# Altium integrated library Altium_WE-SPXO (rev19a).IntLib: 134 symbols (part 2 of 2)
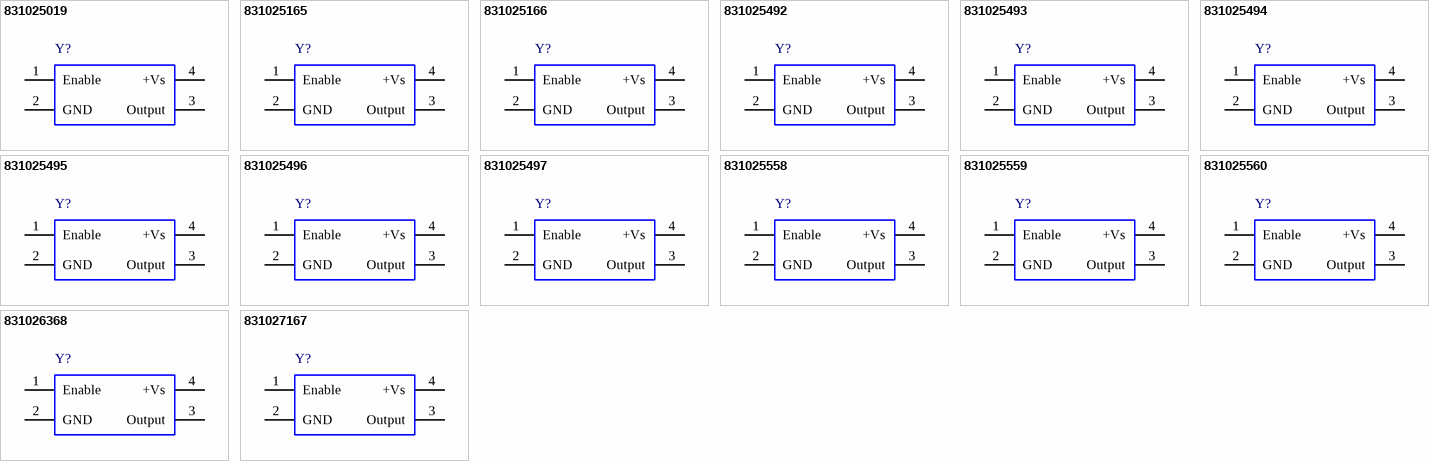
[diagram p8: symbols 831025019 to 831027167]

## 831025558
designator Y?, comment 24MHz, +/-50ppm, 3.3V  (value not drawn)
WE-SPXO Simple Packaged Quartz Oscillator, size CFPS-39, 24MHz, +/-50ppm, 3.3V; Part Number: 831025558; Frequency Stability: 50ppm; ComponentLink1Description: Manufacturer; ComponentLink1URL: http://www.we-online.de; ComponentLink2Description: Datasheet; ComponentLink2URL: https://katalog.we-online.com/pbs/datasheet/831025558.pdf; Published Date: March 2019; Publisher: Wurth Elektronik; Size: CFPS-39; Operating Temperature: -40 up to +85degC; Mounting Technology: SMT; Packaging: Tape and Reel; Supply Voltage: 3.3V; Frequency: 24MHz
footprint WE-SPXO_CFPS-39
pins: 1 Enable, 2 GND, 3 Output, 4 +Vs

## 831025559
designator Y?, comment 40MHz, +/-50ppm, 3.3V  (value not drawn)
WE-SPXO Simple Packaged Quartz Oscillator, size CFPS-39, 40MHz, +/-50ppm, 3.3V; Part Number: 831025559; Frequency Stability: 50ppm; ComponentLink1Description: Manufacturer; ComponentLink1URL: http://www.we-online.de; ComponentLink2Description: Datasheet; ComponentLink2URL: https://katalog.we-online.com/pbs/datasheet/831025559.pdf; Published Date: March 2019; Publisher: Wurth Elektronik; Size: CFPS-39; Operating Temperature: -40 up to +85degC; Mounting Technology: SMT; Packaging: Tape and Reel; Supply Voltage: 3.3V; Frequency: 40MHz
footprint WE-SPXO_CFPS-39
pins: 1 Enable, 2 GND, 3 Output, 4 +Vs

## 831025560
designator Y?, comment 50MHz, +/-50ppm, 3.3V  (value not drawn)
WE-SPXO Simple Packaged Quartz Oscillator, size CFPS-39, 50MHz, +/-50ppm, 3.3V; Part Number: 831025560; Frequency Stability: 50ppm; ComponentLink1Description: Manufacturer; ComponentLink1URL: http://www.we-online.de; ComponentLink2Description: Datasheet; ComponentLink2URL: https://katalog.we-online.com/pbs/datasheet/831025560.pdf; Published Date: March 2019; Publisher: Wurth Elektronik; Size: CFPS-39; Operating Temperature: -40 up to +85degC; Mounting Technology: SMT; Packaging: Tape and Reel; Supply Voltage: 3.3V; Frequency: 50MHz
footprint WE-SPXO_CFPS-39
pins: 1 Enable, 2 GND, 3 Output, 4 +Vs

## 831026368
designator Y?, comment 27MHz, +/-50ppm, 3.3V  (value not drawn)
WE-SPXO Simple Packaged Quartz Oscillator, size CFPS-39, 27MHz, +/-50ppm, 3.3V; Part Number: 831026368; Frequency Stability: 50ppm; ComponentLink1Description: Manufacturer; ComponentLink1URL: http://www.we-online.de; ComponentLink2Description: Datasheet; ComponentLink2URL: https://katalog.we-online.com/pbs/datasheet/831026368.pdf; Published Date: March 2019; Publisher: Wurth Elektronik; Size: CFPS-39; Operating Temperature: -40 up to +85degC; Mounting Technology: SMT; Packaging: Tape and Reel; Supply Voltage: 3.3V; Frequency: 27MHz
footprint WE-SPXO_CFPS-39
pins: 1 Enable, 2 GND, 3 Output, 4 +Vs

## 831027167
designator Y?, comment 26MHz, +/-50ppm, 3.3V  (value not drawn)
WE-SPXO Simple Packaged Quartz Oscillator, size CFPS-39, 26MHz, +/-50ppm, 3.3V; Part Number: 831027167; Frequency Stability: 50ppm; ComponentLink1Description: Manufacturer; ComponentLink1URL: http://www.we-online.de; ComponentLink2Description: Datasheet; ComponentLink2URL: https://katalog.we-online.com/pbs/datasheet/831027167.pdf; Published Date: March 2019; Publisher: Wurth Elektronik; Size: CFPS-39; Operating Temperature: -40 up to +85degC; Mounting Technology: SMT; Packaging: Tape and Reel; Supply Voltage: 3.3V; Frequency: 26MHz
footprint WE-SPXO_CFPS-39
pins: 1 Enable, 2 GND, 3 Output, 4 +Vs


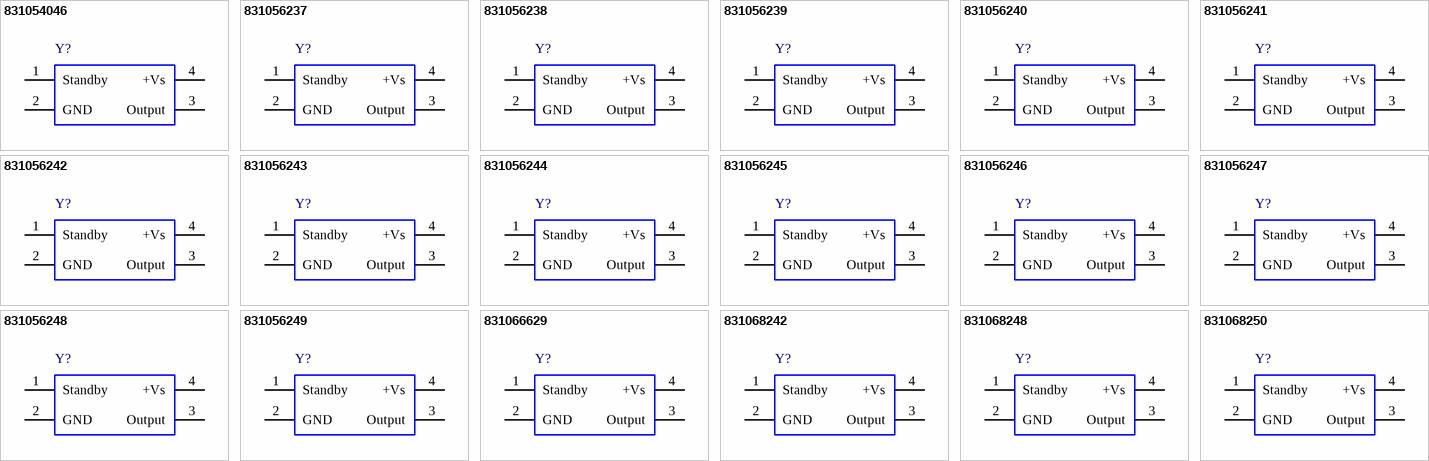
[diagram p4: symbols 831054046 to 831068250]

## 831054046
designator Y?, comment 10MHz, +/-50ppm, 3.3V  (value not drawn)
WE-SPXO Simple Packaged Quartz Oscillator, size IQXO-540, 10MHz, +/-50ppm, 3.3V; Part Number: 831054046; Frequency Stability: 50ppm; ComponentLink1Description: Manufacturer; ComponentLink1URL: http://www.we-online.de; ComponentLink2Description: Datasheet; ComponentLink2URL: https://katalog.we-online.com/pbs/datasheet/831054046.pdf; Published Date: March 2019; Publisher: Wurth Elektronik; Size: IQXO-540; Operating Temperature: -40 up to +85degC; Mounting Technology: SMT; Packaging: Tape and Reel; Supply Voltage: 3.3V; Frequency: 10MHz
footprint WE-SPXO_IQXO-540
pins: 1 Standby, 2 GND, 3 Output, 4 +Vs

## 831056237
designator Y?, comment 12MHz, +/-50ppm, 3.3V  (value not drawn)
WE-SPXO Simple Packaged Quartz Oscillator, size IQXO-540, 12MHz, +/-50ppm, 3.3V; Part Number: 831056237; Frequency Stability: 50ppm; ComponentLink1Description: Manufacturer; ComponentLink1URL: http://www.we-online.de; ComponentLink2Description: Datasheet; ComponentLink2URL: https://katalog.we-online.com/pbs/datasheet/831056237.pdf; Published Date: March 2019; Publisher: Wurth Elektronik; Size: IQXO-540; Operating Temperature: -40 up to +85degC; Mounting Technology: SMT; Packaging: Tape and Reel; Supply Voltage: 3.3V; Frequency: 12MHz
footprint WE-SPXO_IQXO-540
pins: 1 Standby, 2 GND, 3 Output, 4 +Vs

## 831056238
designator Y?, comment 13MHz, +/-50ppm, 3.3V  (value not drawn)
WE-SPXO Simple Packaged Quartz Oscillator, size IQXO-540, 13MHz, +/-50ppm, 3.3V; Part Number: 831056238; Frequency Stability: 50ppm; ComponentLink1Description: Manufacturer; ComponentLink1URL: http://www.we-online.de; ComponentLink2Description: Datasheet; ComponentLink2URL: https://katalog.we-online.com/pbs/datasheet/831056238.pdf; Published Date: March 2019; Publisher: Wurth Elektronik; Size: IQXO-540; Operating Temperature: -40 up to +85degC; Mounting Technology: SMT; Packaging: Tape and Reel; Supply Voltage: 3.3V; Frequency: 13MHz
footprint WE-SPXO_IQXO-540
pins: 1 Standby, 2 GND, 3 Output, 4 +Vs

## 831056239
designator Y?, comment 19.2MHz, +/-50ppm, 3.3V  (value not drawn)
WE-SPXO Simple Packaged Quartz Oscillator, size IQXO-540, 19.2MHz, +/-50ppm, 3.3V; Part Number: 831056239; Frequency Stability: 50ppm; ComponentLink1Description: Manufacturer; ComponentLink1URL: http://www.we-online.de; ComponentLink2Description: Datasheet; ComponentLink2URL: https://katalog.we-online.com/pbs/datasheet/831056239.pdf; Published Date: March 2019; Publisher: Wurth Elektronik; Size: IQXO-540; Operating Temperature: -40 up to +85degC; Mounting Technology: SMT; Packaging: Tape and Reel; Supply Voltage: 3.3V; Frequency: 19.2MHz
footprint WE-SPXO_IQXO-540
pins: 1 Standby, 2 GND, 3 Output, 4 +Vs

## 831056240
designator Y?, comment 19.44MHz, +/-50ppm, 3.3V  (value not drawn)
WE-SPXO Simple Packaged Quartz Oscillator, size IQXO-540, 19.44MHz, +/-50ppm, 3.3V; Part Number: 831056240; Frequency Stability: 50ppm; ComponentLink1Description: Manufacturer; ComponentLink1URL: http://www.we-online.de; ComponentLink2Description: Datasheet; ComponentLink2URL: https://katalog.we-online.com/pbs/datasheet/831056240.pdf; Published Date: March 2019; Publisher: Wurth Elektronik; Size: IQXO-540; Operating Temperature: -40 up to +85degC; Mounting Technology: SMT; Packaging: Tape and Reel; Supply Voltage: 3.3V; Frequency: 19.44MHz
footprint WE-SPXO_IQXO-540
pins: 1 Standby, 2 GND, 3 Output, 4 +Vs

## 831056241
designator Y?, comment 20MHz, +/-50ppm, 3.3V  (value not drawn)
WE-SPXO Simple Packaged Quartz Oscillator, size IQXO-540, 20MHz, +/-50ppm, 3.3V; Part Number: 831056241; Frequency Stability: 50ppm; ComponentLink1Description: Manufacturer; ComponentLink1URL: http://www.we-online.de; ComponentLink2Description: Datasheet; ComponentLink2URL: https://katalog.we-online.com/pbs/datasheet/831056241.pdf; Published Date: March 2019; Publisher: Wurth Elektronik; Size: IQXO-540; Operating Temperature: -40 up to +85degC; Mounting Technology: SMT; Packaging: Tape and Reel; Supply Voltage: 3.3V; Frequency: 20MHz
footprint WE-SPXO_IQXO-540
pins: 1 Standby, 2 GND, 3 Output, 4 +Vs

## 831056242
designator Y?, comment 24MHz, +/-50ppm, 3.3V  (value not drawn)
WE-SPXO Simple Packaged Quartz Oscillator, size IQXO-540, 24MHz, +/-50ppm, 3.3V; Part Number: 831056242; Frequency Stability: 50ppm; ComponentLink1Description: Manufacturer; ComponentLink1URL: http://www.we-online.de; ComponentLink2Description: Datasheet; ComponentLink2URL: https://katalog.we-online.com/pbs/datasheet/831056242.pdf; Published Date: March 2019; Publisher: Wurth Elektronik; Size: IQXO-540; Operating Temperature: -40 up to +85degC; Mounting Technology: SMT; Packaging: Tape and Reel; Supply Voltage: 3.3V; Frequency: 24MHz
footprint WE-SPXO_IQXO-540
pins: 1 Standby, 2 GND, 3 Output, 4 +Vs

## 831056243
designator Y?, comment 24.576MHz, +/-50ppm, 3.3V  (value not drawn)
WE-SPXO Simple Packaged Quartz Oscillator, size IQXO-540, 24.576MHz, +/-50ppm, 3.3V; Part Number: 831056243; Frequency Stability: 50ppm; ComponentLink1Description: Manufacturer; ComponentLink1URL: http://www.we-online.de; ComponentLink2Description: Datasheet; ComponentLink2URL: https://katalog.we-online.com/pbs/datasheet/831056243.pdf; Published Date: March 2019; Publisher: Wurth Elektronik; Size: IQXO-540; Operating Temperature: -40 up to +85degC; Mounting Technology: SMT; Packaging: Tape and Reel; Supply Voltage: 3.3V; Frequency: 24.576MHz
footprint WE-SPXO_IQXO-540
pins: 1 Standby, 2 GND, 3 Output, 4 +Vs

## 831056244
designator Y?, comment 25MHz, +/-50ppm, 3.3V  (value not drawn)
WE-SPXO Simple Packaged Quartz Oscillator, size IQXO-540, 25MHz, +/-50ppm, 3.3V; Part Number: 831056244; Frequency Stability: 50ppm; ComponentLink1Description: Manufacturer; ComponentLink1URL: http://www.we-online.de; ComponentLink2Description: Datasheet; ComponentLink2URL: https://katalog.we-online.com/pbs/datasheet/831056244.pdf; Published Date: March 2019; Publisher: Wurth Elektronik; Size: IQXO-540; Operating Temperature: -40 up to +85degC; Mounting Technology: SMT; Packaging: Tape and Reel; Supply Voltage: 3.3V; Frequency: 25MHz
footprint WE-SPXO_IQXO-540
pins: 1 Standby, 2 GND, 3 Output, 4 +Vs

## 831056245
designator Y?, comment 26MHz, +/-50ppm, 3.3V  (value not drawn)
WE-SPXO Simple Packaged Quartz Oscillator, size IQXO-540, 26MHz, +/-50ppm, 3.3V; Part Number: 831056245; Frequency Stability: 50ppm; ComponentLink1Description: Manufacturer; ComponentLink1URL: http://www.we-online.de; ComponentLink2Description: Datasheet; ComponentLink2URL: https://katalog.we-online.com/pbs/datasheet/831056245.pdf; Published Date: March 2019; Publisher: Wurth Elektronik; Size: IQXO-540; Operating Temperature: -40 up to +85degC; Mounting Technology: SMT; Packaging: Tape and Reel; Supply Voltage: 3.3V; Frequency: 26MHz
footprint WE-SPXO_IQXO-540
pins: 1 Standby, 2 GND, 3 Output, 4 +Vs

## 831056246
designator Y?, comment 27MHz, +/-50ppm, 3.3V  (value not drawn)
WE-SPXO Simple Packaged Quartz Oscillator, size IQXO-540, 27MHz, +/-50ppm, 3.3V; Part Number: 831056246; Frequency Stability: 50ppm; ComponentLink1Description: Manufacturer; ComponentLink1URL: http://www.we-online.de; ComponentLink2Description: Datasheet; ComponentLink2URL: https://katalog.we-online.com/pbs/datasheet/831056246.pdf; Published Date: March 2019; Publisher: Wurth Elektronik; Size: IQXO-540; Operating Temperature: -40 up to +85degC; Mounting Technology: SMT; Packaging: Tape and Reel; Supply Voltage: 3.3V; Frequency: 27MHz
footprint WE-SPXO_IQXO-540
pins: 1 Standby, 2 GND, 3 Output, 4 +Vs

## 831056247
designator Y?, comment 40MHz, +/-50ppm, 3.3V  (value not drawn)
WE-SPXO Simple Packaged Quartz Oscillator, size IQXO-540, 40MHz, +/-50ppm, 3.3V; Part Number: 831056247; Frequency Stability: 50ppm; ComponentLink1Description: Manufacturer; ComponentLink1URL: http://www.we-online.de; ComponentLink2Description: Datasheet; ComponentLink2URL: https://katalog.we-online.com/pbs/datasheet/831056247.pdf; Published Date: March 2019; Publisher: Wurth Elektronik; Size: IQXO-540; Operating Temperature: -40 up to +85degC; Mounting Technology: SMT; Packaging: Tape and Reel; Supply Voltage: 3.3V; Frequency: 40MHz
footprint WE-SPXO_IQXO-540
pins: 1 Standby, 2 GND, 3 Output, 4 +Vs

## 831056248
designator Y?, comment 48MHz, +/-50ppm, 3.3V  (value not drawn)
WE-SPXO Simple Packaged Quartz Oscillator, size IQXO-540, 48MHz, +/-50ppm, 3.3V; Part Number: 831056248; Frequency Stability: 50ppm; ComponentLink1Description: Manufacturer; ComponentLink1URL: http://www.we-online.de; ComponentLink2Description: Datasheet; ComponentLink2URL: https://katalog.we-online.com/pbs/datasheet/831056248.pdf; Published Date: March 2019; Publisher: Wurth Elektronik; Size: IQXO-540; Operating Temperature: -40 up to +85degC; Mounting Technology: SMT; Packaging: Tape and Reel; Supply Voltage: 3.3V; Frequency: 48MHz
footprint WE-SPXO_IQXO-540
pins: 1 Standby, 2 GND, 3 Output, 4 +Vs

## 831056249
designator Y?, comment 50MHz, +/-50ppm, 3.3V  (value not drawn)
WE-SPXO Simple Packaged Quartz Oscillator, size IQXO-540, 50MHz, +/-50ppm, 3.3V; Part Number: 831056249; Frequency Stability: 50ppm; ComponentLink1Description: Manufacturer; ComponentLink1URL: http://www.we-online.de; ComponentLink2Description: Datasheet; ComponentLink2URL: https://katalog.we-online.com/pbs/datasheet/831056249.pdf; Published Date: March 2019; Publisher: Wurth Elektronik; Size: IQXO-540; Operating Temperature: -40 up to +85degC; Mounting Technology: SMT; Packaging: Tape and Reel; Supply Voltage: 3.3V; Frequency: 50MHz
footprint WE-SPXO_IQXO-540
pins: 1 Standby, 2 GND, 3 Output, 4 +Vs

## 831066629
designator Y?, comment 16MHz, +/-50ppm, 3.3V  (value not drawn)
WE-SPXO Simple Packaged Quartz Oscillator, size IQXO-540, 16MHz, +/-50ppm, 3.3V; Part Number: 831066629; Frequency Stability: 50ppm; ComponentLink1Description: Manufacturer; ComponentLink1URL: http://www.we-online.de; ComponentLink2Description: Datasheet; ComponentLink2URL: https://katalog.we-online.com/pbs/datasheet/831066629.pdf; Published Date: March 2019; Publisher: Wurth Elektronik; Size: IQXO-540; Operating Temperature: -40 up to +85degC; Mounting Technology: SMT; Packaging: Tape and Reel; Supply Voltage: 3.3V; Frequency: 16MHz
footprint WE-SPXO_IQXO-540
pins: 1 Standby, 2 GND, 3 Output, 4 +Vs

## 831068242
designator Y?, comment 8MHz, +/-50ppm, 3.3V  (value not drawn)
WE-SPXO Simple Packaged Quartz Oscillator, size IQXO-540, 8MHz, +/-50ppm, 3.3V; Part Number: 831068242; Frequency Stability: 50ppm; ComponentLink1Description: Manufacturer; ComponentLink1URL: http://www.we-online.de; ComponentLink2Description: Datasheet; ComponentLink2URL: https://katalog.we-online.com/pbs/datasheet/831068242.pdf; Published Date: March 2019; Publisher: Wurth Elektronik; Size: IQXO-540; Operating Temperature: -40 up to +85degC; Mounting Technology: SMT; Packaging: Tape and Reel; Supply Voltage: 3.3V; Frequency: 8MHz
footprint WE-SPXO_IQXO-540
pins: 1 Standby, 2 GND, 3 Output, 4 +Vs

## 831068248
designator Y?, comment 32MHz, +/-50ppm, 3.3V  (value not drawn)
WE-SPXO Simple Packaged Quartz Oscillator, size IQXO-540, 32MHz, +/-50ppm, 3.3V; Part Number: 831068248; Frequency Stability: 50ppm; ComponentLink1Description: Manufacturer; ComponentLink1URL: http://www.we-online.de; ComponentLink2Description: Datasheet; ComponentLink2URL: https://katalog.we-online.com/pbs/datasheet/831068248.pdf; Published Date: March 2019; Publisher: Wurth Elektronik; Size: IQXO-540; Operating Temperature: -40 up to +85degC; Mounting Technology: SMT; Packaging: Tape and Reel; Supply Voltage: 3.3V; Frequency: 32MHz
footprint WE-SPXO_IQXO-540
pins: 1 Standby, 2 GND, 3 Output, 4 +Vs

## 831068250
designator Y?, comment 38.4MHz, +/-50ppm, 3.3V  (value not drawn)
WE-SPXO Simple Packaged Quartz Oscillator, size IQXO-540, 38.4MHz, +/-50ppm, 3.3V; Part Number: 831068250; Frequency Stability: 50ppm; ComponentLink1Description: Manufacturer; ComponentLink1URL: http://www.we-online.de; ComponentLink2Description: Datasheet; ComponentLink2URL: https://katalog.we-online.com/pbs/datasheet/831068250.pdf; Published Date: March 2019; Publisher: Wurth Elektronik; Size: IQXO-540; Operating Temperature: -40 up to +85degC; Mounting Technology: SMT; Packaging: Tape and Reel; Supply Voltage: 3.3V; Frequency: 38.4MHz
footprint WE-SPXO_IQXO-540
pins: 1 Standby, 2 GND, 3 Output, 4 +Vs


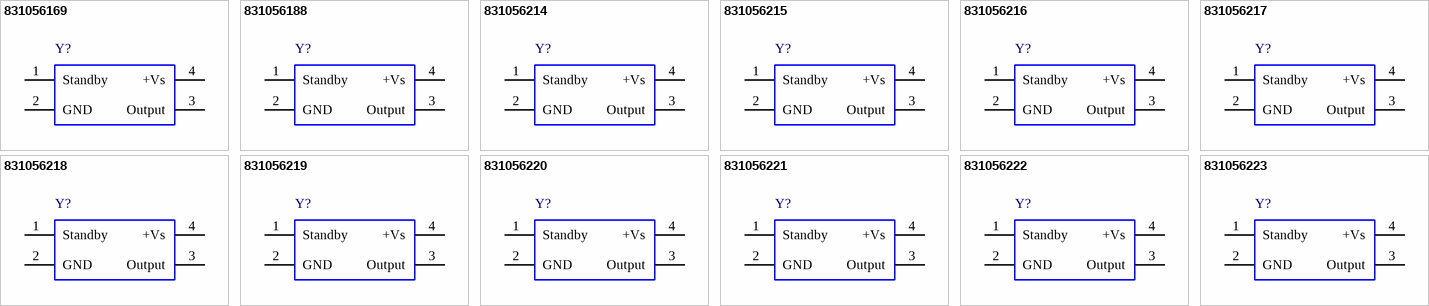
[diagram p5: symbols 831056169 to 831056223]

## 831056169
designator Y?, comment 13MHz, +/-50ppm, 1.8V  (value not drawn)
WE-SPXO Simple Packaged Quartz Oscillator, size IQXO-542, 13MHz, +/-50ppm, 1.8V; Part Number: 831056169; Frequency Stability: 50ppm; ComponentLink1Description: Manufacturer; ComponentLink1URL: http://www.we-online.de; ComponentLink2Description: Datasheet; ComponentLink2URL: https://katalog.we-online.com/pbs/datasheet/831056169.pdf; Published Date: March 2019; Publisher: Wurth Elektronik; Size: IQXO-542; Operating Temperature: -40 up to +85degC; Mounting Technology: SMT; Packaging: Tape and Reel; Supply Voltage: 1.8V; Frequency: 13MHz
footprint WE-SPXO_IQXO-542
pins: 1 Standby, 2 GND, 3 Output, 4 +Vs

## 831056188
designator Y?, comment 19.2MHz, +/-50ppm, 1.8V  (value not drawn)
WE-SPXO Simple Packaged Quartz Oscillator, size IQXO-542, 19.2MHz, +/-50ppm, 1.8V; Part Number: 831056188; Frequency Stability: 50ppm; ComponentLink1Description: Manufacturer; ComponentLink1URL: http://www.we-online.de; ComponentLink2Description: Datasheet; ComponentLink2URL: https://katalog.we-online.com/pbs/datasheet/831056188.pdf; Published Date: March 2019; Publisher: Wurth Elektronik; Size: IQXO-542; Operating Temperature: -40 up to +85degC; Mounting Technology: SMT; Packaging: Tape and Reel; Supply Voltage: 1.8V; Frequency: 19.2MHz
footprint WE-SPXO_IQXO-542
pins: 1 Standby, 2 GND, 3 Output, 4 +Vs

## 831056214
designator Y?, comment 19.44MHz, +/-50ppm, 1.8V  (value not drawn)
WE-SPXO Simple Packaged Quartz Oscillator, size IQXO-542, 19.44MHz, +/-50ppm, 1.8V; Part Number: 831056214; Frequency Stability: 50ppm; ComponentLink1Description: Manufacturer; ComponentLink1URL: http://www.we-online.de; ComponentLink2Description: Datasheet; ComponentLink2URL: https://katalog.we-online.com/pbs/datasheet/831056214.pdf; Published Date: March 2019; Publisher: Wurth Elektronik; Size: IQXO-542; Operating Temperature: -40 up to +85degC; Mounting Technology: SMT; Packaging: Tape and Reel; Supply Voltage: 1.8V; Frequency: 19.44MHz
footprint WE-SPXO_IQXO-542
pins: 1 Standby, 2 GND, 3 Output, 4 +Vs

## 831056215
designator Y?, comment 20MHz, +/-50ppm, 1.8V  (value not drawn)
WE-SPXO Simple Packaged Quartz Oscillator, size IQXO-542, 20MHz, +/-50ppm, 1.8V; Part Number: 831056215; Frequency Stability: 50ppm; ComponentLink1Description: Manufacturer; ComponentLink1URL: http://www.we-online.de; ComponentLink2Description: Datasheet; ComponentLink2URL: https://katalog.we-online.com/pbs/datasheet/831056215.pdf; Published Date: March 2019; Publisher: Wurth Elektronik; Size: IQXO-542; Operating Temperature: -40 up to +85degC; Mounting Technology: SMT; Packaging: Tape and Reel; Supply Voltage: 1.8V; Frequency: 20MHz
footprint WE-SPXO_IQXO-542
pins: 1 Standby, 2 GND, 3 Output, 4 +Vs

## 831056216
designator Y?, comment 24MHz, +/-50ppm, 1.8V  (value not drawn)
WE-SPXO Simple Packaged Quartz Oscillator, size IQXO-542, 24MHz, +/-50ppm, 1.8V; Part Number: 831056216; Frequency Stability: 50ppm; ComponentLink1Description: Manufacturer; ComponentLink1URL: http://www.we-online.de; ComponentLink2Description: Datasheet; ComponentLink2URL: https://katalog.we-online.com/pbs/datasheet/831056216.pdf; Published Date: March 2019; Publisher: Wurth Elektronik; Size: IQXO-542; Operating Temperature: -40 up to +85degC; Mounting Technology: SMT; Packaging: Tape and Reel; Supply Voltage: 1.8V; Frequency: 24MHz
footprint WE-SPXO_IQXO-542
pins: 1 Standby, 2 GND, 3 Output, 4 +Vs

## 831056217
designator Y?, comment 24.576MHz, +/-50ppm, 1.8V  (value not drawn)
WE-SPXO Simple Packaged Quartz Oscillator, size IQXO-542, 24.576MHz, +/-50ppm, 1.8V; Part Number: 831056217; Frequency Stability: 50ppm; ComponentLink1Description: Manufacturer; ComponentLink1URL: http://www.we-online.de; ComponentLink2Description: Datasheet; ComponentLink2URL: https://katalog.we-online.com/pbs/datasheet/831056217.pdf; Published Date: March 2019; Publisher: Wurth Elektronik; Size: IQXO-542; Operating Temperature: -40 up to +85degC; Mounting Technology: SMT; Packaging: Tape and Reel; Supply Voltage: 1.8V; Frequency: 24.576MHz
footprint WE-SPXO_IQXO-542
pins: 1 Standby, 2 GND, 3 Output, 4 +Vs

## 831056218
designator Y?, comment 25MHz, +/-50ppm, 1.8V  (value not drawn)
WE-SPXO Simple Packaged Quartz Oscillator, size IQXO-542, 25MHz, +/-50ppm, 1.8V; Part Number: 831056218; Frequency Stability: 50ppm; ComponentLink1Description: Manufacturer; ComponentLink1URL: http://www.we-online.de; ComponentLink2Description: Datasheet; ComponentLink2URL: https://katalog.we-online.com/pbs/datasheet/831056218.pdf; Published Date: March 2019; Publisher: Wurth Elektronik; Size: IQXO-542; Operating Temperature: -40 up to +85degC; Mounting Technology: SMT; Packaging: Tape and Reel; Supply Voltage: 1.8V; Frequency: 25MHz
footprint WE-SPXO_IQXO-542
pins: 1 Standby, 2 GND, 3 Output, 4 +Vs

## 831056219
designator Y?, comment 26MHz, +/-50ppm, 1.8V  (value not drawn)
WE-SPXO Simple Packaged Quartz Oscillator, size IQXO-542, 26MHz, +/-50ppm, 1.8V; Part Number: 831056219; Frequency Stability: 50ppm; ComponentLink1Description: Manufacturer; ComponentLink1URL: http://www.we-online.de; ComponentLink2Description: Datasheet; ComponentLink2URL: https://katalog.we-online.com/pbs/datasheet/831056219.pdf; Published Date: March 2019; Publisher: Wurth Elektronik; Size: IQXO-542; Operating Temperature: -40 up to +85degC; Mounting Technology: SMT; Packaging: Tape and Reel; Supply Voltage: 1.8V; Frequency: 26MHz
footprint WE-SPXO_IQXO-542
pins: 1 Standby, 2 GND, 3 Output, 4 +Vs

## 831056220
designator Y?, comment 27MHz, +/-50ppm, 1.8V  (value not drawn)
WE-SPXO Simple Packaged Quartz Oscillator, size IQXO-542, 27MHz, +/-50ppm, 1.8V; Part Number: 831056220; Frequency Stability: 50ppm; ComponentLink1Description: Manufacturer; ComponentLink1URL: http://www.we-online.de; ComponentLink2Description: Datasheet; ComponentLink2URL: https://katalog.we-online.com/pbs/datasheet/831056220.pdf; Published Date: March 2019; Publisher: Wurth Elektronik; Size: IQXO-542; Operating Temperature: -40 up to +85degC; Mounting Technology: SMT; Packaging: Tape and Reel; Supply Voltage: 1.8V; Frequency: 27MHz
footprint WE-SPXO_IQXO-542
pins: 1 Standby, 2 GND, 3 Output, 4 +Vs

## 831056221
designator Y?, comment 40MHz, +/-50ppm, 1.8V  (value not drawn)
WE-SPXO Simple Packaged Quartz Oscillator, size IQXO-542, 40MHz, +/-50ppm, 1.8V; Part Number: 831056221; Frequency Stability: 50ppm; ComponentLink1Description: Manufacturer; ComponentLink1URL: http://www.we-online.de; ComponentLink2Description: Datasheet; ComponentLink2URL: https://katalog.we-online.com/pbs/datasheet/831056221.pdf; Published Date: March 2019; Publisher: Wurth Elektronik; Size: IQXO-542; Operating Temperature: -40 up to +85degC; Mounting Technology: SMT; Packaging: Tape and Reel; Supply Voltage: 1.8V; Frequency: 40MHz
footprint WE-SPXO_IQXO-542
pins: 1 Standby, 2 GND, 3 Output, 4 +Vs

## 831056222
designator Y?, comment 48MHz, +/-50ppm, 1.8V  (value not drawn)
WE-SPXO Simple Packaged Quartz Oscillator, size IQXO-542, 48MHz, +/-50ppm, 1.8V; Part Number: 831056222; Frequency Stability: 50ppm; ComponentLink1Description: Manufacturer; ComponentLink1URL: http://www.we-online.de; ComponentLink2Description: Datasheet; ComponentLink2URL: https://katalog.we-online.com/pbs/datasheet/831056222.pdf; Published Date: March 2019; Publisher: Wurth Elektronik; Size: IQXO-542; Operating Temperature: -40 up to +85degC; Mounting Technology: SMT; Packaging: Tape and Reel; Supply Voltage: 1.8V; Frequency: 48MHz
footprint WE-SPXO_IQXO-542
pins: 1 Standby, 2 GND, 3 Output, 4 +Vs

## 831056223
designator Y?, comment 50MHz, +/-50ppm, 1.8V  (value not drawn)
WE-SPXO Simple Packaged Quartz Oscillator, size IQXO-542, 50MHz, +/-50ppm, 1.8V; Part Number: 831056223; Frequency Stability: 50ppm; ComponentLink1Description: Manufacturer; ComponentLink1URL: http://www.we-online.de; ComponentLink2Description: Datasheet; ComponentLink2URL: https://katalog.we-online.com/pbs/datasheet/831056223.pdf; Published Date: March 2019; Publisher: Wurth Elektronik; Size: IQXO-542; Operating Temperature: -40 up to +85degC; Mounting Technology: SMT; Packaging: Tape and Reel; Supply Voltage: 1.8V; Frequency: 50MHz
footprint WE-SPXO_IQXO-542
pins: 1 Standby, 2 GND, 3 Output, 4 +Vs


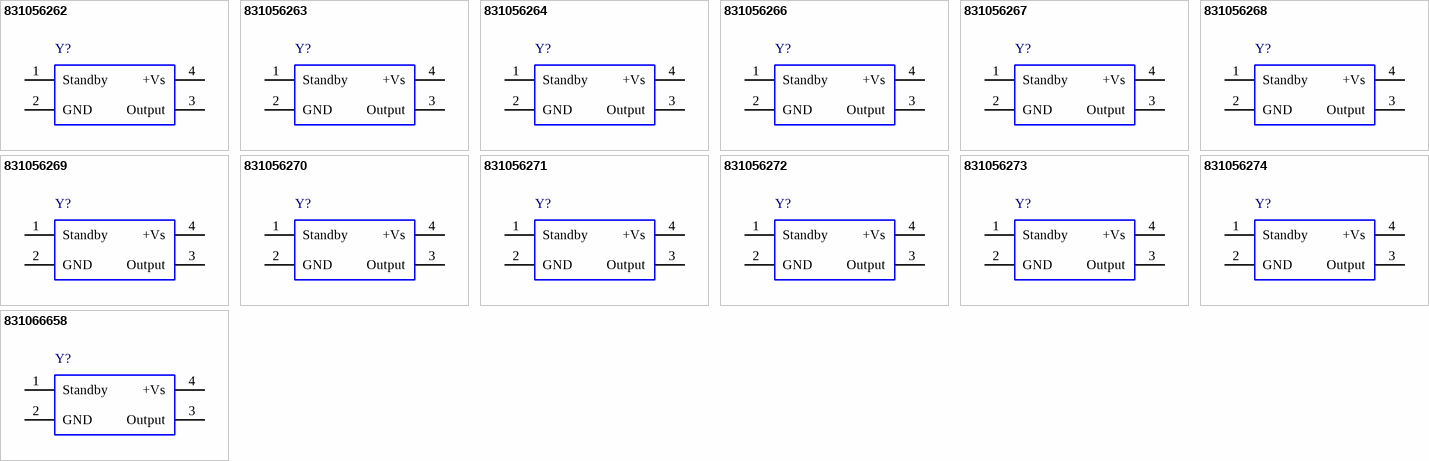
[diagram p6: symbols 831056262 to 831066658]

## 831056262
designator Y?, comment 12MHz, +/-50ppm, 1.8V  (value not drawn)
WE-SPXO Simple Packaged Quartz Oscillator, size IQXO-794, 12MHz, +/-50ppm, 1.8V; Part Number: 831056262; Frequency Stability: 50ppm; ComponentLink1Description: Manufacturer; ComponentLink1URL: http://www.we-online.de; ComponentLink2Description: Datasheet; ComponentLink2URL: https://katalog.we-online.com/pbs/datasheet/831056262.pdf; Published Date: March 2019; Publisher: Wurth Elektronik; Size: IQXO-794; Operating Temperature: -40 up to +85degC; Mounting Technology: SMT; Packaging: Tape and Reel; Supply Voltage: 1.8V; Frequency: 12MHz
footprint WE-SPXO_IQXO-794
pins: 1 Standby, 2 GND, 3 Output, 4 +Vs

## 831056263
designator Y?, comment 13MHz, +/-50ppm, 1.8V  (value not drawn)
WE-SPXO Simple Packaged Quartz Oscillator, size IQXO-794, 13MHz, +/-50ppm, 1.8V; Part Number: 831056263; Frequency Stability: 50ppm; ComponentLink1Description: Manufacturer; ComponentLink1URL: http://www.we-online.de; ComponentLink2Description: Datasheet; ComponentLink2URL: https://katalog.we-online.com/pbs/datasheet/831056263.pdf; Published Date: March 2019; Publisher: Wurth Elektronik; Size: IQXO-794; Operating Temperature: -40 up to +85degC; Mounting Technology: SMT; Packaging: Tape and Reel; Supply Voltage: 1.8V; Frequency: 13MHz
footprint WE-SPXO_IQXO-794
pins: 1 Standby, 2 GND, 3 Output, 4 +Vs

## 831056264
designator Y?, comment 19.2MHz, +/-50ppm, 1.8V  (value not drawn)
WE-SPXO Simple Packaged Quartz Oscillator, size IQXO-794, 19.2MHz, +/-50ppm, 1.8V; Part Number: 831056264; Frequency Stability: 50ppm; ComponentLink1Description: Manufacturer; ComponentLink1URL: http://www.we-online.de; ComponentLink2Description: Datasheet; ComponentLink2URL: https://katalog.we-online.com/pbs/datasheet/831056264.pdf; Published Date: March 2019; Publisher: Wurth Elektronik; Size: IQXO-794; Operating Temperature: -40 up to +85degC; Mounting Technology: SMT; Packaging: Tape and Reel; Supply Voltage: 1.8V; Frequency: 19.2MHz
footprint WE-SPXO_IQXO-794
pins: 1 Standby, 2 GND, 3 Output, 4 +Vs

## 831056266
designator Y?, comment 20MHz, +/-50ppm, 1.8V  (value not drawn)
WE-SPXO Simple Packaged Quartz Oscillator, size IQXO-794, 20MHz, +/-50ppm, 1.8V; Part Number: 831056266; Frequency Stability: 50ppm; ComponentLink1Description: Manufacturer; ComponentLink1URL: http://www.we-online.de; ComponentLink2Description: Datasheet; ComponentLink2URL: https://katalog.we-online.com/pbs/datasheet/831056266.pdf; Published Date: March 2019; Publisher: Wurth Elektronik; Size: IQXO-794; Operating Temperature: -40 up to +85degC; Mounting Technology: SMT; Packaging: Tape and Reel; Supply Voltage: 1.8V; Frequency: 20MHz
footprint WE-SPXO_IQXO-794
pins: 1 Standby, 2 GND, 3 Output, 4 +Vs

## 831056267
designator Y?, comment 24MHz, +/-50ppm, 1.8V  (value not drawn)
WE-SPXO Simple Packaged Quartz Oscillator, size IQXO-794, 24MHz, +/-50ppm, 1.8V; Part Number: 831056267; Frequency Stability: 50ppm; ComponentLink1Description: Manufacturer; ComponentLink1URL: http://www.we-online.de; ComponentLink2Description: Datasheet; ComponentLink2URL: https://katalog.we-online.com/pbs/datasheet/831056267.pdf; Published Date: March 2019; Publisher: Wurth Elektronik; Size: IQXO-794; Operating Temperature: -40 up to +85degC; Mounting Technology: SMT; Packaging: Tape and Reel; Supply Voltage: 1.8V; Frequency: 24MHz
footprint WE-SPXO_IQXO-794
pins: 1 Standby, 2 GND, 3 Output, 4 +Vs

## 831056268
designator Y?, comment 24.576MHz, +/-50ppm, 1.8V  (value not drawn)
WE-SPXO Simple Packaged Quartz Oscillator, size IQXO-794, 24.576MHz, +/-50ppm, 1.8V; Part Number: 831056268; Frequency Stability: 50ppm; ComponentLink1Description: Manufacturer; ComponentLink1URL: http://www.we-online.de; ComponentLink2Description: Datasheet; ComponentLink2URL: https://katalog.we-online.com/pbs/datasheet/831056268.pdf; Published Date: March 2019; Publisher: Wurth Elektronik; Size: IQXO-794; Operating Temperature: -40 up to +85degC; Mounting Technology: SMT; Packaging: Tape and Reel; Supply Voltage: 1.8V; Frequency: 24.576MHz
footprint WE-SPXO_IQXO-794
pins: 1 Standby, 2 GND, 3 Output, 4 +Vs

## 831056269
designator Y?, comment 25MHz, +/-50ppm, 1.8V  (value not drawn)
WE-SPXO Simple Packaged Quartz Oscillator, size IQXO-794, 25MHz, +/-50ppm, 1.8V; Part Number: 831056269; Frequency Stability: 50ppm; ComponentLink1Description: Manufacturer; ComponentLink1URL: http://www.we-online.de; ComponentLink2Description: Datasheet; ComponentLink2URL: https://katalog.we-online.com/pbs/datasheet/831056269.pdf; Published Date: March 2019; Publisher: Wurth Elektronik; Size: IQXO-794; Operating Temperature: -40 up to +85degC; Mounting Technology: SMT; Packaging: Tape and Reel; Supply Voltage: 1.8V; Frequency: 25MHz
footprint WE-SPXO_IQXO-794
pins: 1 Standby, 2 GND, 3 Output, 4 +Vs

## 831056270
designator Y?, comment 26MHz, +/-50ppm, 1.8V  (value not drawn)
WE-SPXO Simple Packaged Quartz Oscillator, size IQXO-794, 26MHz, +/-50ppm, 1.8V; Part Number: 831056270; Frequency Stability: 50ppm; ComponentLink1Description: Manufacturer; ComponentLink1URL: http://www.we-online.de; ComponentLink2Description: Datasheet; ComponentLink2URL: https://katalog.we-online.com/pbs/datasheet/831056270.pdf; Published Date: March 2019; Publisher: Wurth Elektronik; Size: IQXO-794; Operating Temperature: -40 up to +85degC; Mounting Technology: SMT; Packaging: Tape and Reel; Supply Voltage: 1.8V; Frequency: 26MHz
footprint WE-SPXO_IQXO-794
pins: 1 Standby, 2 GND, 3 Output, 4 +Vs

## 831056271
designator Y?, comment 27MHz, +/-50ppm, 1.8V  (value not drawn)
WE-SPXO Simple Packaged Quartz Oscillator, size IQXO-794, 27MHz, +/-50ppm, 1.8V; Part Number: 831056271; Frequency Stability: 50ppm; ComponentLink1Description: Manufacturer; ComponentLink1URL: http://www.we-online.de; ComponentLink2Description: Datasheet; ComponentLink2URL: https://katalog.we-online.com/pbs/datasheet/831056271.pdf; Published Date: March 2019; Publisher: Wurth Elektronik; Size: IQXO-794; Operating Temperature: -40 up to +85degC; Mounting Technology: SMT; Packaging: Tape and Reel; Supply Voltage: 1.8V; Frequency: 27MHz
footprint WE-SPXO_IQXO-794
pins: 1 Standby, 2 GND, 3 Output, 4 +Vs

## 831056272
designator Y?, comment 40MHz, +/-50ppm, 1.8V  (value not drawn)
WE-SPXO Simple Packaged Quartz Oscillator, size IQXO-794, 40MHz, +/-50ppm, 1.8V; Part Number: 831056272; Frequency Stability: 50ppm; ComponentLink1Description: Manufacturer; ComponentLink1URL: http://www.we-online.de; ComponentLink2Description: Datasheet; ComponentLink2URL: https://katalog.we-online.com/pbs/datasheet/831056272.pdf; Published Date: March 2019; Publisher: Wurth Elektronik; Size: IQXO-794; Operating Temperature: -40 up to +85degC; Mounting Technology: SMT; Packaging: Tape and Reel; Supply Voltage: 1.8V; Frequency: 40MHz
footprint WE-SPXO_IQXO-794
pins: 1 Standby, 2 GND, 3 Output, 4 +Vs

## 831056273
designator Y?, comment 48MHz, +/-50ppm, 1.8V  (value not drawn)
WE-SPXO Simple Packaged Quartz Oscillator, size IQXO-794, 48MHz, +/-50ppm, 1.8V; Part Number: 831056273; Frequency Stability: 50ppm; ComponentLink1Description: Manufacturer; ComponentLink1URL: http://www.we-online.de; ComponentLink2Description: Datasheet; ComponentLink2URL: https://katalog.we-online.com/pbs/datasheet/831056273.pdf; Published Date: March 2019; Publisher: Wurth Elektronik; Size: IQXO-794; Operating Temperature: -40 up to +85degC; Mounting Technology: SMT; Packaging: Tape and Reel; Supply Voltage: 1.8V; Frequency: 48MHz
footprint WE-SPXO_IQXO-794
pins: 1 Standby, 2 GND, 3 Output, 4 +Vs

## 831056274
designator Y?, comment 50MHz, +/-50ppm, 1.8V  (value not drawn)
WE-SPXO Simple Packaged Quartz Oscillator, size IQXO-794, 50MHz, +/-50ppm, 1.8V; Part Number: 831056274; Frequency Stability: 50ppm; ComponentLink1Description: Manufacturer; ComponentLink1URL: http://www.we-online.de; ComponentLink2Description: Datasheet; ComponentLink2URL: https://katalog.we-online.com/pbs/datasheet/831056274.pdf; Published Date: March 2019; Publisher: Wurth Elektronik; Size: IQXO-794; Operating Temperature: -40 up to +85degC; Mounting Technology: SMT; Packaging: Tape and Reel; Supply Voltage: 1.8V; Frequency: 50MHz
footprint WE-SPXO_IQXO-794
pins: 1 Standby, 2 GND, 3 Output, 4 +Vs

## 831066658
designator Y?, comment 16MHz, +/-50ppm, 1.8V  (value not drawn)
WE-SPXO Simple Packaged Quartz Oscillator, size IQXO-794, 16MHz, +/-50ppm, 1.8V; Part Number: 831066658; Frequency Stability: 50ppm; ComponentLink1Description: Manufacturer; ComponentLink1URL: http://www.we-online.de; ComponentLink2Description: Datasheet; ComponentLink2URL: https://katalog.we-online.com/pbs/datasheet/831066658.pdf; Published Date: March 2019; Publisher: Wurth Elektronik; Size: IQXO-794; Operating Temperature: -40 up to +85degC; Mounting Technology: SMT; Packaging: Tape and Reel; Supply Voltage: 1.8V; Frequency: 16MHz
footprint WE-SPXO_IQXO-794
pins: 1 Standby, 2 GND, 3 Output, 4 +Vs


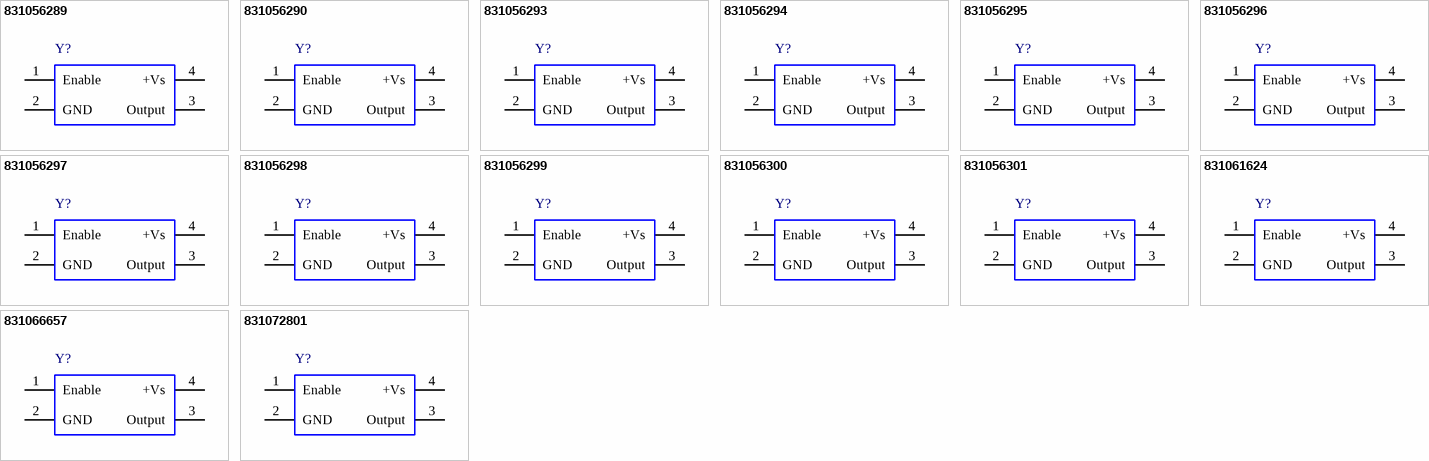
[diagram p7: symbols 831056289 to 831072801]

## 831056289
designator Y?, comment 12MHz, +/-50ppm, 3.3V  (value not drawn)
WE-SPXO Simple Packaged Quartz Oscillator, size IQXO-791, 12MHz, +/-50ppm, 3.3V; Part Number: 831056289; Frequency Stability: 50ppm; ComponentLink1Description: Manufacturer; ComponentLink1URL: http://www.we-online.de; ComponentLink2Description: Datasheet; ComponentLink2URL: https://katalog.we-online.com/pbs/datasheet/831056289.pdf; Published Date: March 2019; Publisher: Wurth Elektronik; Size: IQXO-791; Operating Temperature: -40 up to +85degC; Mounting Technology: SMT; Packaging: Tape and Reel; Supply Voltage: 3.3V; Frequency: 12MHz
footprint WE-SPXO_IQXO-791
pins: 1 Enable, 2 GND, 3 Output, 4 +Vs

## 831056290
designator Y?, comment 13MHz, +/-50ppm, 3.3V  (value not drawn)
WE-SPXO Simple Packaged Quartz Oscillator, size IQXO-791, 13MHz, +/-50ppm, 3.3V; Part Number: 831056290; Frequency Stability: 50ppm; ComponentLink1Description: Manufacturer; ComponentLink1URL: http://www.we-online.de; ComponentLink2Description: Datasheet; ComponentLink2URL: https://katalog.we-online.com/pbs/datasheet/831056290.pdf; Published Date: March 2019; Publisher: Wurth Elektronik; Size: IQXO-791; Operating Temperature: -40 up to +85degC; Mounting Technology: SMT; Packaging: Tape and Reel; Supply Voltage: 3.3V; Frequency: 13MHz
footprint WE-SPXO_IQXO-791
pins: 1 Enable, 2 GND, 3 Output, 4 +Vs

## 831056293
designator Y?, comment 20MHz, +/-50ppm, 3.3V  (value not drawn)
WE-SPXO Simple Packaged Quartz Oscillator, size IQXO-791, 20MHz, +/-50ppm, 3.3V; Part Number: 831056293; Frequency Stability: 50ppm; ComponentLink1Description: Manufacturer; ComponentLink1URL: http://www.we-online.de; ComponentLink2Description: Datasheet; ComponentLink2URL: https://katalog.we-online.com/pbs/datasheet/831056293.pdf; Published Date: March 2019; Publisher: Wurth Elektronik; Size: IQXO-791; Operating Temperature: -40 up to +85degC; Mounting Technology: SMT; Packaging: Tape and Reel; Supply Voltage: 3.3V; Frequency: 20MHz
footprint WE-SPXO_IQXO-791
pins: 1 Enable, 2 GND, 3 Output, 4 +Vs

## 831056294
designator Y?, comment 24MHz, +/-50ppm, 3.3V  (value not drawn)
WE-SPXO Simple Packaged Quartz Oscillator, size IQXO-791, 24MHz, +/-50ppm, 3.3V; Part Number: 831056294; Frequency Stability: 50ppm; ComponentLink1Description: Manufacturer; ComponentLink1URL: http://www.we-online.de; ComponentLink2Description: Datasheet; ComponentLink2URL: https://katalog.we-online.com/pbs/datasheet/831056294.pdf; Published Date: March 2019; Publisher: Wurth Elektronik; Size: IQXO-791; Operating Temperature: -40 up to +85degC; Mounting Technology: SMT; Packaging: Tape and Reel; Supply Voltage: 3.3V; Frequency: 24MHz
footprint WE-SPXO_IQXO-791
pins: 1 Enable, 2 GND, 3 Output, 4 +Vs

## 831056295
designator Y?, comment 24.576MHz, +/-50ppm, 3.3V  (value not drawn)
WE-SPXO Simple Packaged Quartz Oscillator, size IQXO-791, 24.576MHz, +/-50ppm, 3.3V; Part Number: 831056295; Frequency Stability: 50ppm; ComponentLink1Description: Manufacturer; ComponentLink1URL: http://www.we-online.de; ComponentLink2Description: Datasheet; ComponentLink2URL: https://katalog.we-online.com/pbs/datasheet/831056295.pdf; Published Date: March 2019; Publisher: Wurth Elektronik; Size: IQXO-791; Operating Temperature: -40 up to +85degC; Mounting Technology: SMT; Packaging: Tape and Reel; Supply Voltage: 3.3V; Frequency: 24.576MHz
footprint WE-SPXO_IQXO-791
pins: 1 Enable, 2 GND, 3 Output, 4 +Vs

## 831056296
designator Y?, comment 25MHz, +/-50ppm, 3.3V  (value not drawn)
WE-SPXO Simple Packaged Quartz Oscillator, size IQXO-791, 25MHz, +/-50ppm, 3.3V; Part Number: 831056296; Frequency Stability: 50ppm; ComponentLink1Description: Manufacturer; ComponentLink1URL: http://www.we-online.de; ComponentLink2Description: Datasheet; ComponentLink2URL: https://katalog.we-online.com/pbs/datasheet/831056296.pdf; Published Date: March 2019; Publisher: Wurth Elektronik; Size: IQXO-791; Operating Temperature: -40 up to +85degC; Mounting Technology: SMT; Packaging: Tape and Reel; Supply Voltage: 3.3V; Frequency: 25MHz
footprint WE-SPXO_IQXO-791
pins: 1 Enable, 2 GND, 3 Output, 4 +Vs

## 831056297
designator Y?, comment 26MHz, +/-50ppm, 3.3V  (value not drawn)
WE-SPXO Simple Packaged Quartz Oscillator, size IQXO-791, 26MHz, +/-50ppm, 3.3V; Part Number: 831056297; Frequency Stability: 50ppm; ComponentLink1Description: Manufacturer; ComponentLink1URL: http://www.we-online.de; ComponentLink2Description: Datasheet; ComponentLink2URL: https://katalog.we-online.com/pbs/datasheet/831056297.pdf; Published Date: March 2019; Publisher: Wurth Elektronik; Size: IQXO-791; Operating Temperature: -40 up to +85degC; Mounting Technology: SMT; Packaging: Tape and Reel; Supply Voltage: 3.3V; Frequency: 26MHz
footprint WE-SPXO_IQXO-791
pins: 1 Enable, 2 GND, 3 Output, 4 +Vs

## 831056298
designator Y?, comment 27MHz, +/-50ppm, 3.3V  (value not drawn)
WE-SPXO Simple Packaged Quartz Oscillator, size IQXO-791, 27MHz, +/-50ppm, 3.3V; Part Number: 831056298; Frequency Stability: 50ppm; ComponentLink1Description: Manufacturer; ComponentLink1URL: http://www.we-online.de; ComponentLink2Description: Datasheet; ComponentLink2URL: https://katalog.we-online.com/pbs/datasheet/831056298.pdf; Published Date: March 2019; Publisher: Wurth Elektronik; Size: IQXO-791; Operating Temperature: -40 up to +85degC; Mounting Technology: SMT; Packaging: Tape and Reel; Supply Voltage: 3.3V; Frequency: 27MHz
footprint WE-SPXO_IQXO-791
pins: 1 Enable, 2 GND, 3 Output, 4 +Vs

## 831056299
designator Y?, comment 40MHz, +/-50ppm, 3.3V  (value not drawn)
WE-SPXO Simple Packaged Quartz Oscillator, size IQXO-791, 40MHz, +/-50ppm, 3.3V; Part Number: 831056299; Frequency Stability: 50ppm; ComponentLink1Description: Manufacturer; ComponentLink1URL: http://www.we-online.de; ComponentLink2Description: Datasheet; ComponentLink2URL: https://katalog.we-online.com/pbs/datasheet/831056299.pdf; Published Date: March 2019; Publisher: Wurth Elektronik; Size: IQXO-791; Operating Temperature: -40 up to +85degC; Mounting Technology: SMT; Packaging: Tape and Reel; Supply Voltage: 3.3V; Frequency: 40MHz
footprint WE-SPXO_IQXO-791
pins: 1 Enable, 2 GND, 3 Output, 4 +Vs

## 831056300
designator Y?, comment 48MHz, +/-50ppm, 3.3V  (value not drawn)
WE-SPXO Simple Packaged Quartz Oscillator, size IQXO-791, 48MHz, +/-50ppm, 3.3V; Part Number: 831056300; Frequency Stability: 50ppm; ComponentLink1Description: Manufacturer; ComponentLink1URL: http://www.we-online.de; ComponentLink2Description: Datasheet; ComponentLink2URL: https://katalog.we-online.com/pbs/datasheet/831056300.pdf; Published Date: March 2019; Publisher: Wurth Elektronik; Size: IQXO-791; Operating Temperature: -40 up to +85degC; Mounting Technology: SMT; Packaging: Tape and Reel; Supply Voltage: 3.3V; Frequency: 48MHz
footprint WE-SPXO_IQXO-791
pins: 1 Enable, 2 GND, 3 Output, 4 +Vs

## 831056301
designator Y?, comment 50MHz, +/-50ppm, 3.3V  (value not drawn)
WE-SPXO Simple Packaged Quartz Oscillator, size IQXO-791, 50MHz, +/-50ppm, 3.3V; Part Number: 831056301; Frequency Stability: 50ppm; ComponentLink1Description: Manufacturer; ComponentLink1URL: http://www.we-online.de; ComponentLink2Description: Datasheet; ComponentLink2URL: https://katalog.we-online.com/pbs/datasheet/831056301.pdf; Published Date: March 2019; Publisher: Wurth Elektronik; Size: IQXO-791; Operating Temperature: -40 up to +85degC; Mounting Technology: SMT; Packaging: Tape and Reel; Supply Voltage: 3.3V; Frequency: 50MHz
footprint WE-SPXO_IQXO-791
pins: 1 Enable, 2 GND, 3 Output, 4 +Vs

## 831061624
designator Y?, comment 10MHz, +/-50ppm, 3.3V  (value not drawn)
WE-SPXO Simple Packaged Quartz Oscillator, size IQXO-791, 10MHz, +/-50ppm, 3.3V; Part Number: 831061624; Frequency Stability: 50ppm; ComponentLink1Description: Manufacturer; ComponentLink1URL: http://www.we-online.de; ComponentLink2Description: Datasheet; ComponentLink2URL: https://katalog.we-online.com/pbs/datasheet/831061624.pdf; Published Date: March 2019; Publisher: Wurth Elektronik; Size: IQXO-791; Operating Temperature: -40 up to +85degC; Mounting Technology: SMT; Packaging: Tape and Reel; Supply Voltage: 3.3V; Frequency: 10MHz
footprint WE-SPXO_IQXO-791
pins: 1 Enable, 2 GND, 3 Output, 4 +Vs

## 831066657
designator Y?, comment 16MHz, +/-50ppm, 3.3V  (value not drawn)
WE-SPXO Simple Packaged Quartz Oscillator, size IQXO-791, 16MHz, +/-50ppm, 3.3V; Part Number: 831066657; Frequency Stability: 50ppm; ComponentLink1Description: Manufacturer; ComponentLink1URL: http://www.we-online.de; ComponentLink2Description: Datasheet; ComponentLink2URL: https://katalog.we-online.com/pbs/datasheet/831066657.pdf; Published Date: March 2019; Publisher: Wurth Elektronik; Size: IQXO-791; Operating Temperature: -40 up to +85degC; Mounting Technology: SMT; Packaging: Tape and Reel; Supply Voltage: 3.3V; Frequency: 16MHz
footprint WE-SPXO_IQXO-791
pins: 1 Enable, 2 GND, 3 Output, 4 +Vs

## 831072801
designator Y?, comment 8MHz, +/-50ppm, 3.3V  (value not drawn)
WE-SPXO Simple Packaged Quartz Oscillator, size IQXO-791, 8MHz, +/-50ppm, 3.3V; Part Number: 831072801; Frequency Stability: 50ppm; ComponentLink1Description: Manufacturer; ComponentLink1URL: http://www.we-online.de; ComponentLink2Description: Datasheet; ComponentLink2URL: https://katalog.we-online.com/pbs/datasheet/831072801.pdf; Published Date: March 2019; Publisher: Wurth Elektronik; Size: IQXO-791; Operating Temperature: -40 up to +85degC; Mounting Technology: SMT; Packaging: Tape and Reel; Supply Voltage: 3.3V; Frequency: 8MHz
footprint WE-SPXO_IQXO-791
pins: 1 Enable, 2 GND, 3 Output, 4 +Vs